# Altium footprint library MMYWareHouse.PcbLib: 1 footprints
Each footprint in its own frame and in the unit in brackets; x right, y up, seen from the top. Pads: shape width x height; smd on the part's side, far side on the other; paste and mask are expansions set on the pad; w line width, h text height; cw(c..) or ccw(c..) is an arc to the next point about the centre after c.
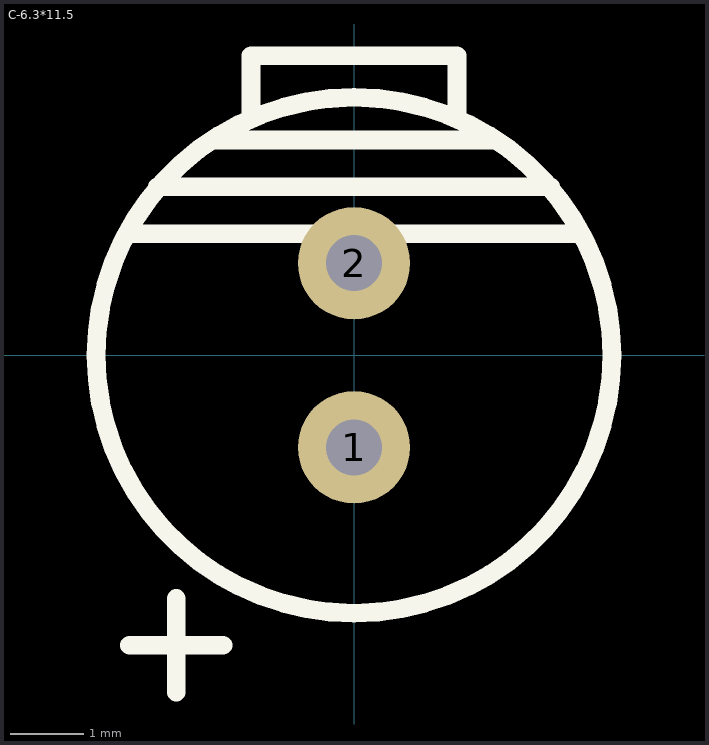
[diagram p0: the footprint, top view; thin cyan lines are the x and y axes]

## C-6.3*11.5 [mil]
pads (2):
  round 60 hole 30: 1(0,-49.21) 2(0,49.21)
Top Overlay:
  circle w10: c0,0 r137.8
  lines w10: -120,-155 -70,-155 ; -120,65 120,65 ; -105,90 105,90 ; -95,-180 -95,-130 ; -75,115 75,115 ; -55,130 -55,160 55,160 55,130